# Altium integrated library GRM21BR61H106KE43K.IntLib: 1 symbol
Pins are listed as number, name and electrical type; pins without a type are passive.

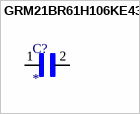
[diagram p0: symbol GRM21BR61H106KE43K]

## GRM21BR61H106KE43K
designator C?
GRM21BR61H106KE43K; Package: None; Price: None; Value: *; MP: GRM21BR61H106KE43K; Availability: Unavailable
footprint CAPC2012X145N
pins: 1, 2